# Altium schematic symbol library HW_ADHERENT_SYSCTRL_R1_L2.SCHLIB: 1987 symbols (part 36 of 38)
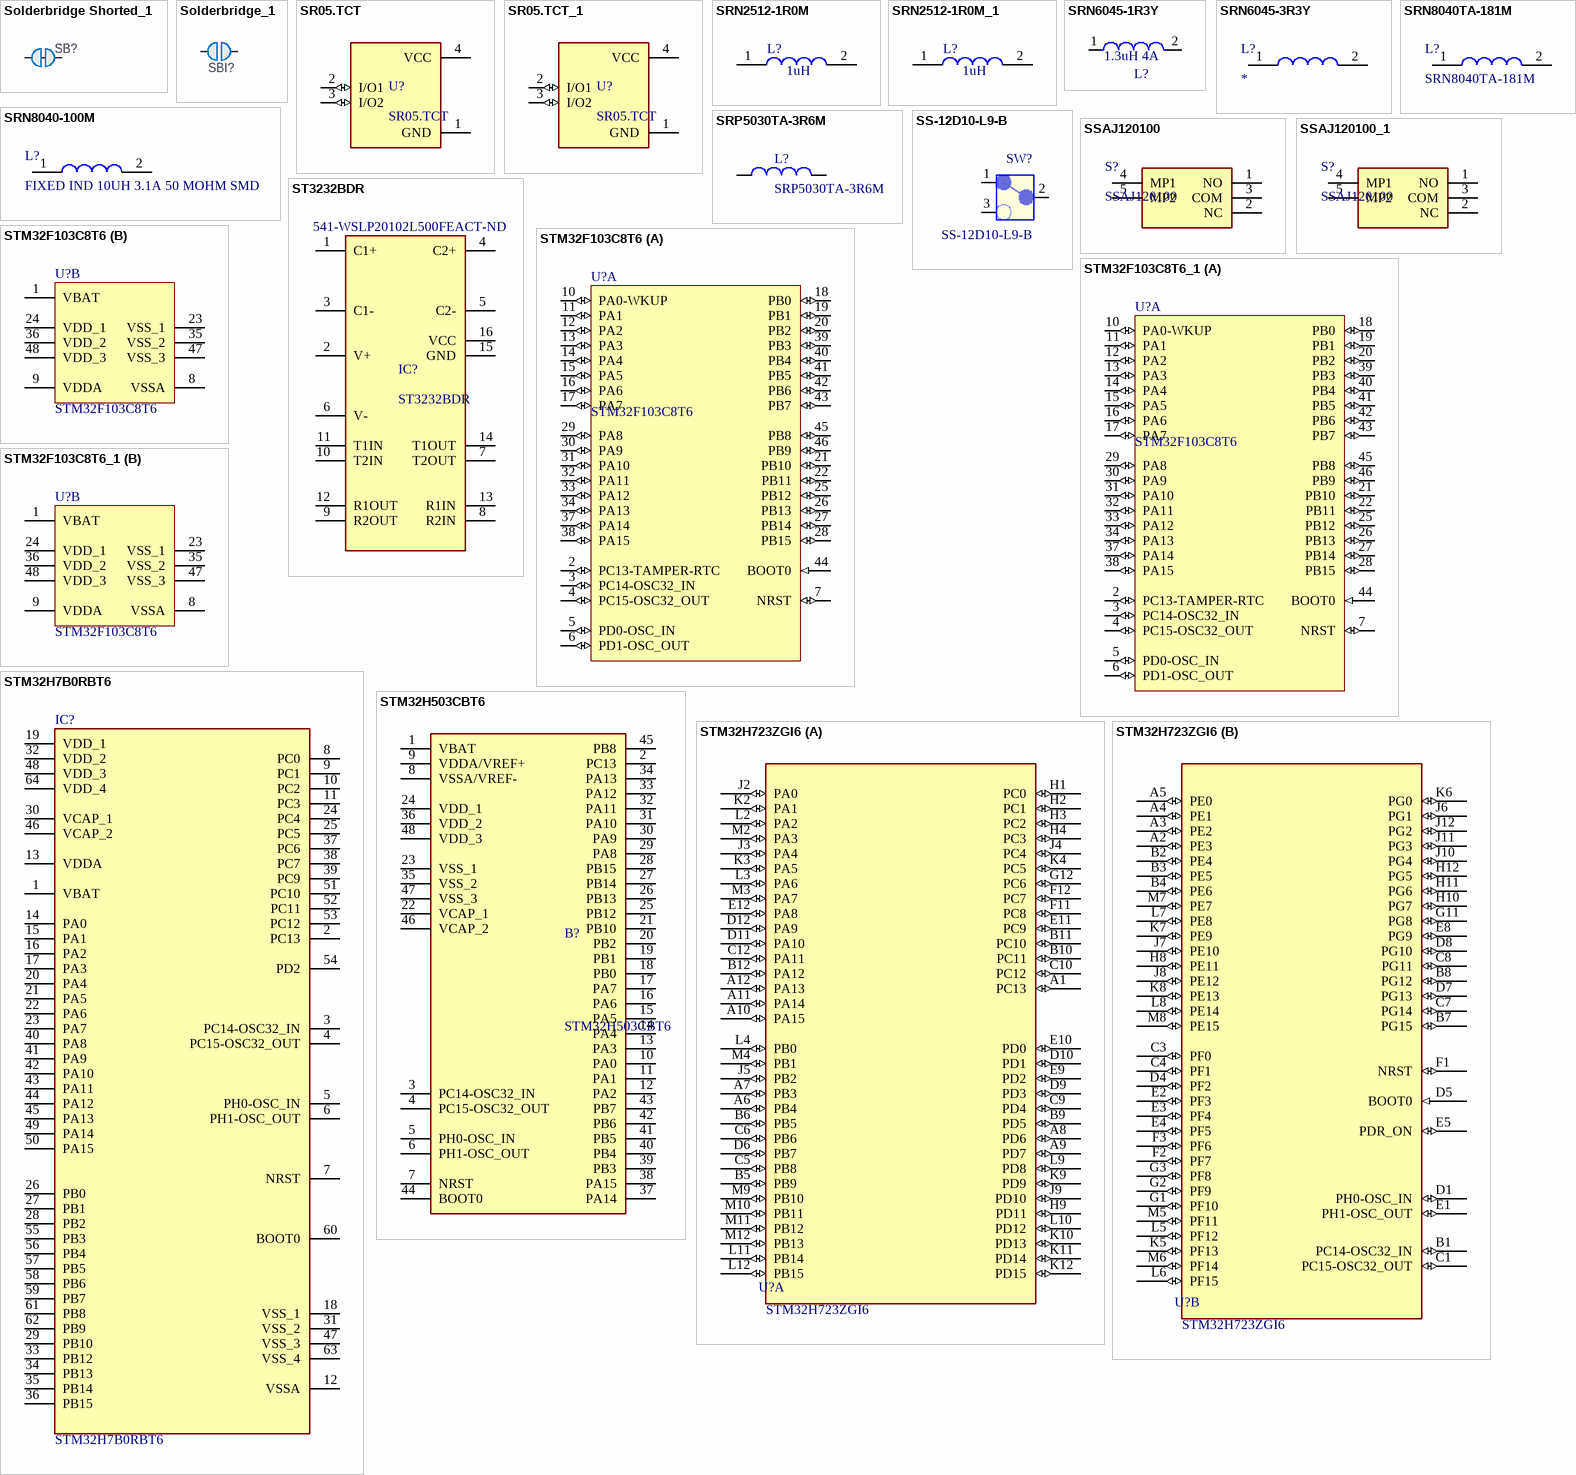
[diagram p97: symbols Solderbridge Shorted_1 to STM32H723ZGI6]

## STM32H7B0RBT6
designator IC?
Integrated Circuit; Manufacturer_Name: STMicroelectronics; Datasheet Link: https://www.mouser.com/datasheet/2/389/dm00674684-1799600.pdf; Height: 1.6mm; Manufacturer_Part_Number: STM32H7B0RBT6; Mouser Part Number: 511-STM32H7B0RBT6; Mouser Price/Stock: https://www.mouser.co.uk/ProductDetail/STMicroelectronics/STM32H7B0RBT6?qs=xZ%2FP%252Ba9zWqZ2tzX90GObZw%3D%3D; Arrow Part Number: STM32H7B0RBT6; Arrow Price/Stock: https://www.arrow.com/en/products/stm32h7b0rbt6/stmicroelectronics?region=nac
footprint QFP50P1200X1200X160-64N
pins: 1 VBAT, 2 PC13, 3 PC14-OSC32_IN, 4 PC15-OSC32_OUT, 5 PH0-OSC_IN, 6 PH1-OSC_OUT, 7 NRST, 8 PC0, 9 PC1, 10 PC2, 11 PC3, 12 VSSA, 13 VDDA, 14 PA0, 15 PA1, 16 PA2, 17 PA3, 18 VSS_1, 19 VDD_1, 20 PA4, 21 PA5, 22 PA6, 23 PA7, 24 PC4, 25 PC5, 26 PB0, 27 PB1, 28 PB2, 29 PB10, 30 VCAP_1, 31 VSS_2, 32 VDD_2, 33 PB12, 34 PB13, 35 PB14, 36 PB15, 37 PC6, 38 PC7, 39 PC9, 40 PA8, 41 PA9, 42 PA10, 43 PA11, 44 PA12, 45 PA13, 46 VCAP_2, 47 VSS_3, 48 VDD_3, 49 PA14, 50 PA15, 51 PC10, 52 PC11, 53 PC12, 54 PD2, 55 PB3, 56 PB4, 57 PB5, 58 PB6, 59 PB7, 60 BOOT0, 61 PB8, 62 PB9, 63 VSS_4, 64 VDD_4

## STM32H503CBT6
designator B?
ARM Microcontrollers - MCU Arm Cortex-M33 32-bit 250MHz, 128 Kbytes of Flash, 32 Kbytes of RAM, I3C; Manufacturer_Name: STMicroelectronics; Geometry.Height: 1.6mm; Manufacturer_Part_Number: STM32H503CBT6; Mouser Part Number: 511-STM32H503CBT6; Mouser Price/Stock: https://www.mouser.co.uk/ProductDetail/STMicroelectronics/STM32H503CBT6?qs=amGC7iS6iy99sz%2FXgeIPHg%3D%3D; Arrow Part Number: STM32H503CBT6; Arrow Price/Stock: https://www.arrow.com/en/products/stm32h503cbt6/stmicroelectronics?utm_currency=USD&region=nac; Datasheet Link: https://www.st.com/resource/en/datasheet/stm32h503eb.pdf; LCSC: C17700273
footprint QFP50P900X900X160-48N
pins: 1 VBAT, 2 PC13, 3 PC14-OSC32_IN, 4 PC15-OSC32_OUT, 5 PH0-OSC_IN, 6 PH1-OSC_OUT, 7 NRST, 8 VSSA/VREF-, 9 VDDA/VREF+, 10 PA0, 11 PA1, 12 PA2, 13 PA3, 14 PA4, 15 PA5, 16 PA6, 17 PA7, 18 PB0, 19 PB1, 20 PB2, 21 PB10, 22 VCAP_1, 23 VSS_1, 24 VDD_1, 25 PB12, 26 PB13, 27 PB14, 28 PB15, 29 PA8, 30 PA9, 31 PA10, 32 PA11, 33 PA12, 34 PA13, 35 VSS_2, 36 VDD_2, 37 PA14, 38 PA15, 39 PB3, 40 PB4, 41 PB5, 42 PB6, 43 PB7, 44 BOOT0, 45 PB8, 46 VCAP_2, 47 VSS_3, 48 VDD_3

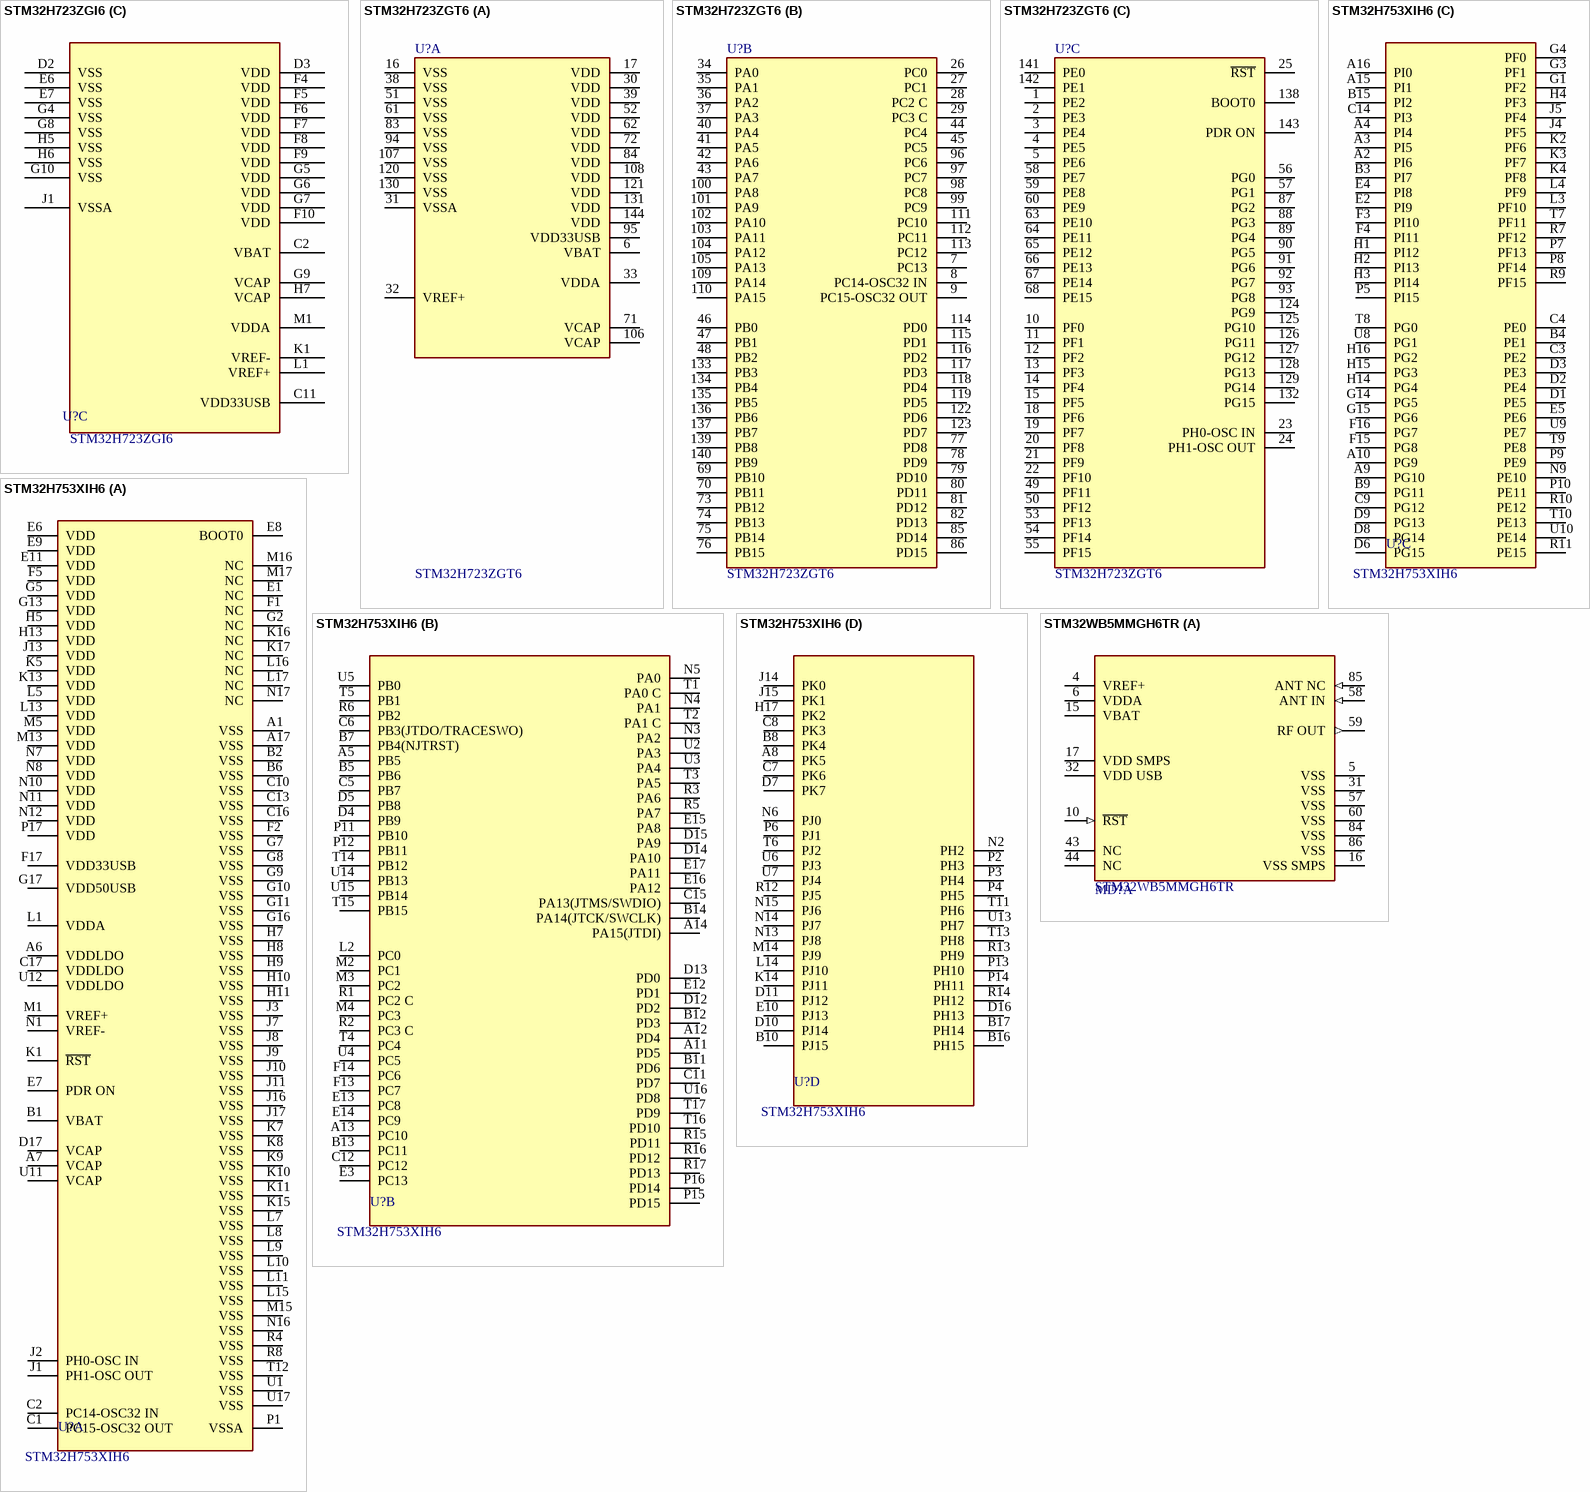
[diagram p55: symbols STM32H723ZGI6 to STM32WB5MMGH6TR]

## STM32H723ZGI6
designator U?, comment Manufacturer Part Number: STM32H723ZGI6  (hidden comment: IC MCU 32BIT 1MB FLASH 144UFBGA)
ARM® Cortex®-M7 STM32H7 Microcontroller IC 32-Bit Single-Core 550MHz 1MB (1M x 8) FLASH 144-UFBGA (7x7); Order Code: DIGI: 497-STM32H723ZGI6-ND
footprint UFBGA_144_7x7
part A pins: A1 PC13 (io), A6 PB4 (io), A7 PB3 (io), A8 PD6 (io), A9 PD7 (io), A10 PA15 (io), A11 PA14 (io), A12 PA13 (io), B5 PB9 (io), B6 PB5 (io), B9 PD5 (io), B10 PC11 (io), B11 PC10 (io), B12 PA12 (io), C5 PB8 (io), C6 PB6 (io), C9 PD4 (io), C10 PC12 (io), C12 PA11 (io), D6 PB7 (io), D9 PD3 (io), D10 PD1 (io), D11 PA10 (io), D12 PA9 (io), E9 PD2 (io), E10 PD0 (io), E11 PC9 (io), E12 PA8 (io), F11 PC8 (io), F12 PC7 (io), G12 PC6 (io), H1 PC0 (io), H2 PC1 (io), H3 PC2 (io), H4 PC3 (io), H9 PD11 (io), J2 PA0 (io), J3 PA4 (io), J4 PC4 (io), J5 PB2 (io), J9 PD10 (io), K2 PA1 (io), K3 PA5 (io), K4 PC5 (io), K9 PD9 (io), K10 PD13 (io), K11 PD14 (io), K12 PD15 (io), L2 PA2 (io), L3 PA6 (io), L4 PB0 (io), L9 PD8 (io), L10 PD12 (io), L11 PB14 (io), L12 PB15 (io), M2 PA3 (io), M3 PA7 (io), M4 PB1 (io), M9 PB10 (io), M10 PB11 (io), M11 PB12 (io), M12 PB13 (io)
part B pins: A2 PE3 (io), A3 PE2 (io), A4 PE1 (io), A5 PE0 (io), B1 PC14-OSC32_IN (io), B2 PE4 (io), B3 PE5 (io), B4 PE6 (io), B7 PG15 (io), B8 PG12 (io), C1 PC15-OSC32_OUT (io), C3 PF0 (io), C4 PF1 (io), C7 PG14 (io), C8 PG11 (io), D1 PH0-OSC_IN (io), D4 PF2 (io), D5 BOOT0 (in), D7 PG13 (io), D8 PG10 (io), E1 PH1-OSC_OUT (io), E2 PF3 (io), E3 PF4 (io), E4 PF5 (io), E5 PDR_ON (io), E8 PG9 (io), F1 NRST (io), F2 PF7 (io), F3 PF6 (io), G1 PF10 (io), G2 PF9 (io), G3 PF8 (io), G11 PG8 (io), H8 PE11 (io), H10 PG7 (io), H11 PG6 (io), H12 PG5 (io), J6 PG1 (io), J7 PE10 (io), J8 PE12 (io), J10 PG4 (io), J11 PG3 (io), J12 PG2 (io), K5 PF13 (io), K6 PG0 (io), K7 PE9 (io), K8 PE13 (io), L5 PF12 (io), L6 PF15 (io), L7 PE8 (io), L8 PE14 (io), M5 PF11 (io), M6 PF14 (io), M7 PE7 (io), M8 PE15 (io)
part C pins: C2 VBAT (power), C11 VDD33USB (power), D2 VSS (power), D3 VDD (power), E6 VSS (power), E7 VSS (power), F4 VDD (power), F5 VDD (power), F6 VDD (power), F7 VDD (power), F8 VDD (power), F9 VDD (power), F10 VDD (power), G4 VSS (power), G5 VDD (power), G6 VDD (power), G7 VDD (power), G8 VSS (power), G9 VCAP (power), G10 VSS (power), H5 VSS (power), H6 VSS (power), H7 VCAP (power), J1 VSSA (power), K1 VREF- (power), L1 VREF+ (power), M1 VDDA (power)

## STM32H723ZGT6
designator U?
ARM® Cortex®-M7 STM32H7 Microcontroller IC 32-Bit Single-Core 550MHz 1MB (1M x 8) FLASH 144-LQFP (20x20); Manufacturer Name: STMicroelectronics; Manufacturer Part Number: STM32H723ZGT6
footprint STMicroelectronics_LQFP144-1A_IPC_C
part A pins: 6 VBAT (power), 16 VSS (power), 17 VDD (power), 30 VDD (power), 31 VSSA (power), 32 VREF+ (power), 33 VDDA (power), 38 VSS (power), 39 VDD (power), 51 VSS (power), 52 VDD (power), 61 VSS (power), 62 VDD (power), 71 VCAP (power), 72 VDD (power), 83 VSS (power), 84 VDD (power), 94 VSS (power), 95 VDD33USB (power), 106 VCAP (power), 107 VSS (power), 108 VDD (power), 120 VSS (power), 121 VDD (power), 130 VSS (power), 131 VDD (power), 144 VDD (power)
part B pins: 7 PC13, 8 PC14-OSC32 IN, 9 PC15-OSC32 OUT, 26 PC0, 27 PC1, 28 PC2 C, 29 PC3 C, 34 PA0, 35 PA1, 36 PA2, 37 PA3, 40 PA4, 41 PA5, 42 PA6, 43 PA7, 44 PC4, 45 PC5, 46 PB0, 47 PB1, 48 PB2, 69 PB10, 70 PB11, 73 PB12, 74 PB13, 75 PB14, 76 PB15, 77 PD8, 78 PD9, 79 PD10, 80 PD11, 81 PD12, 82 PD13, 85 PD14, 86 PD15, 96 PC6, 97 PC7, 98 PC8, 99 PC9, 100 PA8, 101 PA9, 102 PA10, 103 PA11, 104 PA12, 105 PA13, 109 PA14, 110 PA15, 111 PC10, 112 PC11, 113 PC12, 114 PD0, 115 PD1, 116 PD2, 117 PD3, 118 PD4, 119 PD5, 122 PD6, 123 PD7, 133 PB3, 134 PB4, 135 PB5, 136 PB6, 137 PB7, 139 PB8, 140 PB9
part C pins: 1 PE2, 2 PE3, 3 PE4, 4 PE5, 5 PE6, 10 PF0, 11 PF1, 12 PF2, 13 PF3, 14 PF4, 15 PF5, 18 PF6, 19 PF7, 20 PF8, 21 PF9, 22 PF10, 23 PH0-OSC IN, 24 PH1-OSC OUT, 25 ~{RST}, 49 PF11, 50 PF12, 53 PF13, 54 PF14, 55 PF15, 56 PG0, 57 PG1, 58 PE7, 59 PE8, 60 PE9, 63 PE10, 64 PE11, 65 PE12, 66 PE13, 67 PE14, 68 PE15, 87 PG2, 88 PG3, 89 PG4, 90 PG5, 91 PG6, 92 PG7, 93 PG8, 124 PG9, 125 PG10, 126 PG11, 127 PG12, 128 PG13, 129 PG14, 132 PG15, 138 BOOT0, 141 PE0, 142 PE1, 143 PDR ON

## STM32H753XIH6
designator U?, comment Manufacturer Part Number: STM32H753XIH6  (hidden comment: IC MCU 32BIT 2MB FLASH TFBGA)
ARM® Cortex®-M7 STM32H7 Microcontroller IC 32-Bit Single-Core 480MHz 2MB (2M x 8) FLASH 240+25-TFBGA (14x14); Order Code: DIGI: 497-18567-ND
footprint STMicroelectronics_TFBGA240+25-A07U_IPC_A
footprint STMicroelectronics_TFBGA240+25-A07U_IPC_B
footprint STMicroelectronics_TFBGA240+25-A07U_IPC_C
footprint STMicroelectronics_TFBGA240+25-A07U_MFG
part A pins: A1 VSS, A6 VDDLDO, A7 VCAP, A17 VSS, B1 VBAT, B2 VSS, B6 VSS, C1 PC15-OSC32 OUT, C2 PC14-OSC32 IN, C10 VSS, C13 VSS, C16 VSS, C17 VDDLDO, D17 VCAP, E1 NC, E6 VDD, E7 PDR ON, E8 BOOT0, E9 VDD, E11 VDD, F1 NC, F2 VSS, F5 VDD, F17 VDD33USB, G2 NC, G5 VDD, G7 VSS, G8 VSS, G9 VSS, G10 VSS, G11 VSS, G13 VDD, G16 VSS, G17 VDD50USB, H5 VDD, H7 VSS, H8 VSS, H9 VSS, H10 VSS, H11 VSS, H13 VDD, J1 PH1-OSC OUT, J2 PH0-OSC IN, J3 VSS, J7 VSS, J8 VSS, J9 VSS, J10 VSS, J11 VSS, J13 VDD, J16 VSS, J17 VSS, K1 ~{RST}, K5 VDD, K7 VSS, K8 VSS, K9 VSS, K10 VSS, K11 VSS, K13 VDD, K15 VSS, K16 NC, K17 NC, L1 VDDA, L5 VDD, L7 VSS, L8 VSS, L9 VSS, L10 VSS, L11 VSS, L13 VDD, L15 VSS, L16 NC, L17 NC, M1 VREF+, M5 VDD, M13 VDD, M15 VSS, M16 NC, M17 NC, N1 VREF-, N7 VDD, N8 VDD, N10 VDD, N11 VDD, N12 VDD, N16 VSS, N17 NC, P1 VSSA, P17 VDD, R4 VSS, R8 VSS, T12 VSS, U1 VSS, U11 VCAP, U12 VDDLDO, U17 VSS
part B pins: A5 PB5, A11 PD5, A12 PD4, A13 PC10, A14 PA15(JTDI), B5 PB6, B7 PB4(NJTRST), B11 PD6, B12 PD3, B13 PC11, B14 PA14(JTCK/SWCLK), C5 PB7, C6 PB3(JTDO/TRACESWO), C11 PD7, C12 PC12, C15 PA13(JTMS/SWDIO), D4 PB9, D5 PB8, D12 PD2, D13 PD0, D14 PA10, D15 PA9, E3 PC13, E12 PD1, E13 PC8, E14 PC9, E15 PA8, E16 PA12, E17 PA11, F13 PC7, F14 PC6, L2 PC0, M2 PC1, M3 PC2, M4 PC3, N3 PA2, N4 PA1, N5 PA0, P11 PB10, P12 PB11, P15 PD15, P16 PD14, R1 PC2 C, R2 PC3 C, R3 PA6, R5 PA7, R6 PB2, R15 PD11, R16 PD12, R17 PD13, T1 PA0 C, T2 PA1 C, T3 PA5, T4 PC4, T5 PB1, T14 PB12, T15 PB15, T16 PD10, T17 PD9, U2 PA3, U3 PA4, U4 PC5, U5 PB0, U14 PB13, U15 PB14, U16 PD8
part C pins: A2 PI6, A3 PI5, A4 PI4, A9 PG10, A10 PG9, A15 PI1, A16 PI0, B3 PI7, B4 PE1, B9 PG11, B15 PI2, C3 PE2, C4 PE0, C9 PG12, C14 PI3, D1 PE5, D2 PE4, D3 PE3, D6 PG15, D8 PG14, D9 PG13, E2 PI9, E4 PI8, E5 PE6, F3 PI10, F4 PI11, F15 PG8, F16 PG7, G1 PF2, G3 PF1, G4 PF0, G14 PG5, G15 PG6, H1 PI12, H2 PI13, H3 PI14, H4 PF3, H14 PG4, H15 PG3, H16 PG2, J4 PF5, J5 PF4, K2 PF6, K3 PF7, K4 PF8, L3 PF10, L4 PF9, N9 PE10, P5 PI15, P7 PF13, P8 PF14, P9 PE9, P10 PE11, R7 PF12, R9 PF15, R10 PE12, R11 PE15, T7 PF11, T8 PG0, T9 PE8, T10 PE13, U8 PG1, U9 PE7, U10 PE14
part D pins: A8 PK5, B8 PK4, B10 PJ15, B16 PH15, B17 PH14, C7 PK6, C8 PK3, D7 PK7, D10 PJ14, D11 PJ12, D16 PH13, E10 PJ13, H17 PK2, J14 PK0, J15 PK1, K14 PJ11, L14 PJ10, M14 PJ9, N2 PH2, N6 PJ0, N13 PJ8, N14 PJ7, N15 PJ6, P2 PH3, P3 PH4, P4 PH5, P6 PJ1, P13 PH10, P14 PH11, R12 PJ5, R13 PH9, R14 PH12, T6 PJ2, T11 PH6, T13 PH8, U6 PJ3, U7 PJ4, U13 PH7

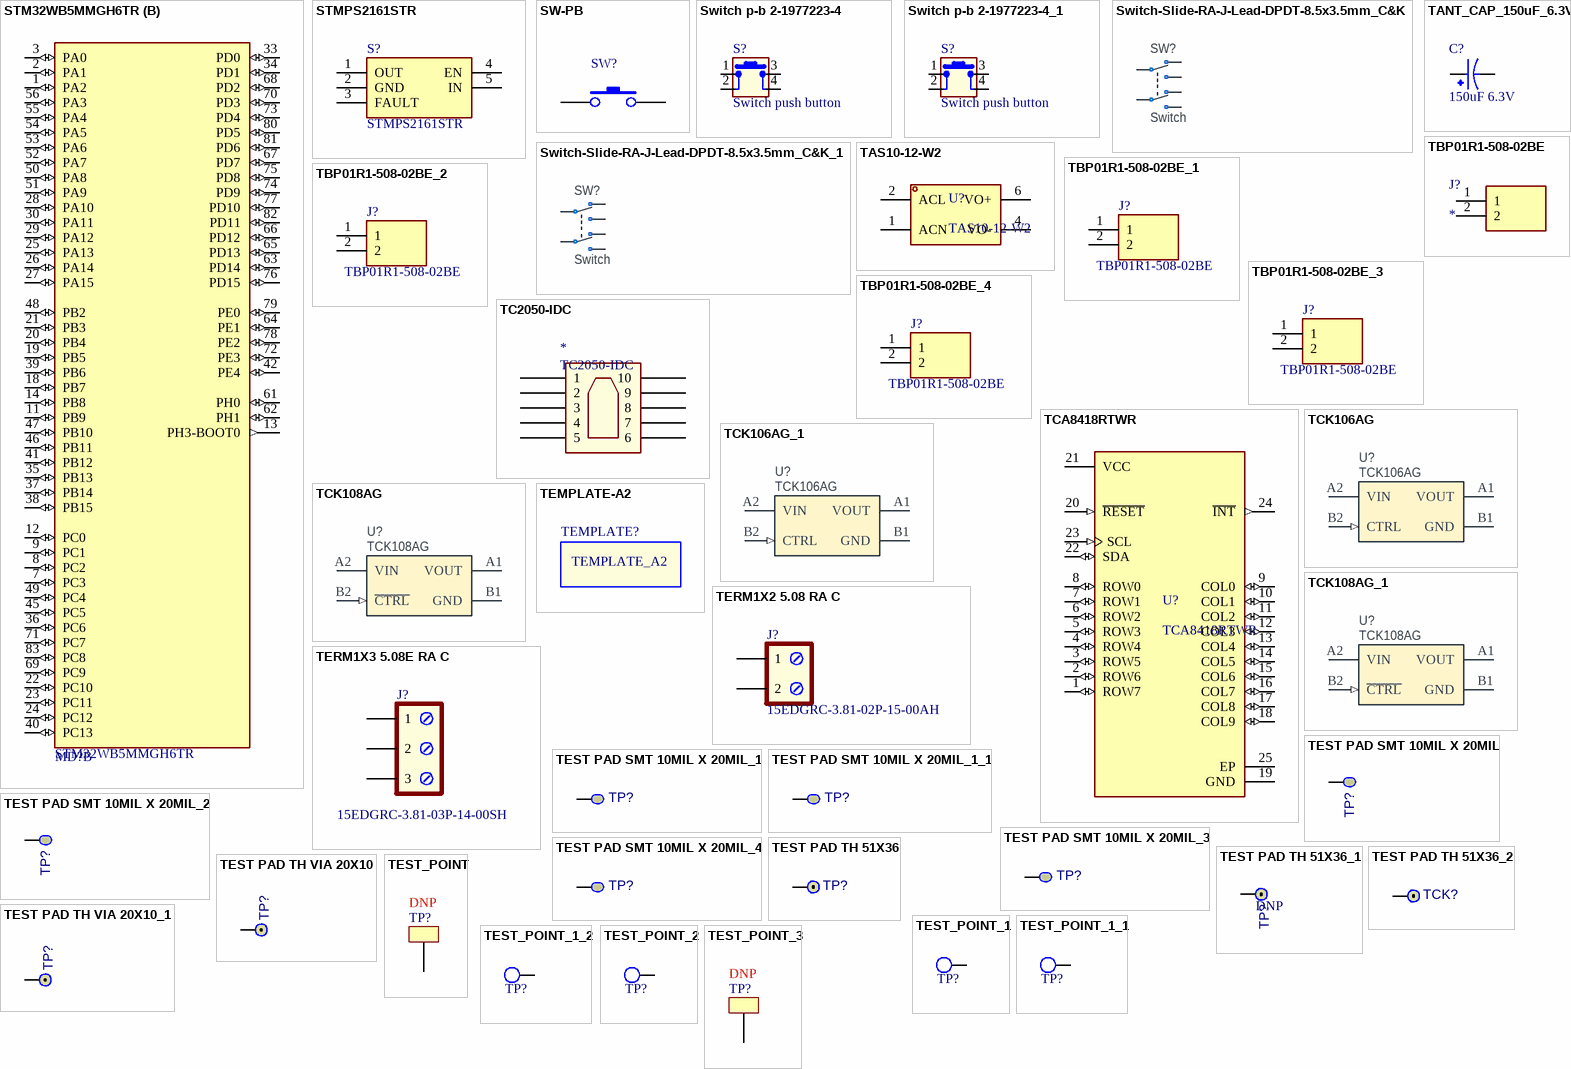
[diagram p56: symbols STM32WB5MMGH6TR to TEST_POINT_3]

## STM32WB5MMGH6TR
designator MD?, comment Manufacturer Part Number: STM32WB5MMGH6TR  (hidden comment: RF TXRX MODULE BT CHIP SMD)
802.15.4, Bluetooth Bluetooth v5.0, Thread, Zigbee® Transceiver Module 2.4GHz Integrated, Chip Surface Mount; Order Code: DIGI: 497-STM32WB5MMGH6TR-ND
footprint STMicroelectronics_STM32WB5MMGH6TR
part A pins: 4 VREF+ (power), 5 VSS (power), 6 VDDA (power), 10 ~{RST} (in), 15 VBAT (power), 16 VSS SMPS (power), 17 VDD SMPS (power), 31 VSS (power), 32 VDD USB (power), 43 NC, 44 NC, 57 VSS (power), 58 ANT IN (in), 59 RF OUT (out), 60 VSS (power), 84 VSS (power), 85 ANT NC (in), 86 VSS (power)
part B pins: 1 PA2 (io), 2 PA1 (io), 3 PA0 (io), 7 PC3 (io), 8 PC2 (io), 9 PC1 (io), 11 PB9 (io), 12 PC0 (io), 13 PH3-BOOT0 (out), 14 PB8 (io), 18 PB7 (io), 19 PB5 (io), 20 PB4 (io), 21 PB3 (io), 22 PC10 (io), 23 PC11 (io), 24 PC12 (io), 25 PA13 (io), 26 PA14 (io), 27 PA15 (io), 28 PA10 (io), 29 PA12 (io), 30 PA11 (io), 33 PD0 (io), 34 PD1 (io), 35 PB13 (io), 36 PC6 (io), 37 PB14 (io), 38 PB15 (io), 39 PB6 (io), 40 PC13 (io), 41 PB12 (io), 42 PE4 (io), 45 PC5 (io), 46 PB11 (io), 47 PB10 (io), 48 PB2 (io), 49 PC4 (io), 50 PA8 (io), 51 PA9 (io), 52 PA7 (io), 53 PA6 (io), 54 PA5 (io), 55 PA4 (io), 56 PA3 (io), 61 PH0 (io), 62 PH1 (io), 63 PD14 (io), 64 PE1 (io), 65 PD13 (io), 66 PD12 (io), 67 PD7 (io), 68 PD2 (io), 69 PC9 (io), 70 PD3 (io), 71 PC7 (io), 72 PE3 (io), 73 PD4 (io), 74 PD9 (io), 75 PD8 (io), 76 PD15 (io), 77 PD10 (io), 78 PE2 (io), 79 PE0 (io), 80 PD5 (io), 81 PD6 (io), 82 PD11 (io), 83 PC8 (io)

## STMPS2161STR
designator S?
Switch; Manufacturer_Name: STMicroelectronics; Datasheet Link: https://componentsearchengine.com/Datasheets/2/STMPS2161STR.pdf; Height: 1.45mm; Manufacturer_Part_Number: STMPS2161STR
footprint SOT95P280X145-5N
pins: 1 OUT, 2 GND, 3 FAULT, 4 EN, 5 IN

## SW-PB
designator SW?
footprint CKN9084
pins: 1, 2

## Switch p-b 2-1977223-4
designator S?, comment value Switch push button  (hidden comment: 2-1977223-4)
SPST-NO; Manufacturer: TE Connectivity ALCOSWITCH Switches; Manufacturer Part Number: 2-1977223-4; Supplier Part Number: 450-2135-1-ND
footprint SMD 6.0X6.0X9.5MM
pins: 1, 2, 3, 4

## Switch p-b 2-1977223-4_1
designator S?, comment value Switch push button  (hidden comment: 2-1977223-4)
SPST-NO; Manufacturer: TE Connectivity ALCOSWITCH Switches; Manufacturer Part Number: 2-1977223-4; Supplier Part Number: 450-2135-1-ND
footprint SMD 6.0X6.0X9.5MM
pins: 1, 2, 3, 4

## Switch-Slide-RA-J-Lead-DPDT-8.5x3.5mm_C&K
designator SW?, comment Switch
SMD slide Switch (ON-ON); Part Number: Switch-Slide-RA-J-Lead-DPDT-8.5x3.5mm_C&K; Manufacturer: C&K; Manufacturer Part Number: JS202011JAQN; Part number IPS: 00000007811; Part number NEMS: 101500037; Note: N.A.; Pad Count: 6; Component Status: Active; Footprint Doc: Switch-Slide-RA-J-Lead-DPDT-8.5x3.5mm; LatestRevisionDate: 2017-02-01; Published: 2016-09-15; Value: Switch; Artikkelnr Noca: N.A.; ComponentLink1URL: N.A.; ComponentLink1Description: Datasheet; ComponentLink2URL: N.A.; ComponentLink2Description: Supplier link; HelpURL: http://www.ck-components.com/media/1422/js.pdf; Supplier 1: Digi-Key; Supplier Part Number 1: CKN10722CT-ND; Supplier 2: Mouser; Supplier Part Number 2: 611-JS202011JAQN; Author: rsk; Component Class: Switches; PartId: 101500037; Part number Norautron: N.A.
footprint JS102011JAQN
pins: 1 N.O-1, 2 COM-1, 3 N.C-1, 4 N.O-2, 5 COM-2, 6 N.C-2

## Switch-Slide-RA-J-Lead-DPDT-8.5x3.5mm_C&K_1
designator SW?, comment Switch
SMD slide Switch (ON-ON); Part Number: Switch-Slide-RA-J-Lead-DPDT-8.5x3.5mm_C&K; Manufacturer: C&K; Manufacturer Part Number: JS202011JAQN; Part number IPS: 00000007811; Part number NEMS: 101500037; Note: N.A.; Pad Count: 6; Component Status: Active; Footprint Doc: Switch-Slide-RA-J-Lead-DPDT-8.5x3.5mm; LatestRevisionDate: 2017-02-01; Published: 2016-09-15; Value: Switch; Artikkelnr Noca: N.A.; ComponentLink1URL: N.A.; ComponentLink1Description: Datasheet; ComponentLink2URL: N.A.; ComponentLink2Description: Supplier link; HelpURL: http://www.ck-components.com/media/1422/js.pdf; Supplier 1: Digi-Key; Supplier Part Number 1: CKN10722CT-ND; Supplier 2: Mouser; Supplier Part Number 2: 611-JS202011JAQN; Author: rsk; Component Class: Switches; PartId: 101500037; Part number Norautron: N.A.
footprint JS102011JAQN
pins: 1 N.O-1, 2 COM-1, 3 N.C-1, 4 N.O-2, 5 COM-2, 6 N.C-2

## TANT_CAP_150uF_6.3V
designator C?, comment value 150uF 6.3V  (hidden comment: CAP TANT POLY 150UF 6.3V 1411)
150 µF Molded Tantalum Polymer Capacitor 6.3 V 1411 (3528 Metric) 70mOhm @ 100kHz; Manufacturer Part Number: 6TPG150M; Availability: Unavailable; Price: None; Package: None
footprint CAP_6TPG150M
pins: 1, 2

## TAS10-12-W2
designator U?
12V 830mA 85VAC~265VAC 100V~370V 10W Step-down type AC/DC-DC 85% Plugin,25x39mm AC-DC Power Modules ROHS; MF: TDPOWER; MP: TAS10-12-W2; Manufacturer Part Number: TAS10-12-W2; LCSC: C2687656; ComponentLink1Description: New link; ComponentLink1URL: https://www.lcsc.com/product-detail/Power-Modules_TDPOWER-TAS10-12-W2_C2687656.html
footprint TAS10-12-W2
pins: 1 ACN, 2 ACL, 4 VO-, 6 VO+

## TBP01R1-508-02BE
designator J?
Connector; Manufacturer_Name: CUI Devices; Manufacturer_Part_Number: TBP01R1-508-02BE; Datasheet Link: https://componentsearchengine.com/Datasheets/1/TBP01R1-508-02BE.pdf; Height: 8.5mm; Mouser Part Number: 490-TBP01R1-508-02BE; Mouser Price/Stock: https://www.mouser.co.uk/ProductDetail/CUI-Devices/TBP01R1-508-02BE?qs=PzGy0jfpSMuT8jxfc02aCw%3D%3D; Arrow Part Number: TBP01R1-508-02BE; Arrow Price/Stock: https://www.arrow.com/en/products/tbp01r1-508-02be/cui-devices?region=nac
footprint TBP01R150802BE
pins: 1, 2

## TBP01R1-508-02BE_1
designator J?, comment TBP01R1-508-02BE
Connector; Manufacturer_Name: CUI Devices; Datasheet Link: https://componentsearchengine.com/Datasheets/1/TBP01R1-508-02BE.pdf; Height: 8.5mm; Manufacturer_Part_Number: TBP01R1-508-02BE; Mouser Part Number: 490-TBP01R1-508-02BE; Mouser Price/Stock: https://www.mouser.co.uk/ProductDetail/CUI-Devices/TBP01R1-508-02BE?qs=PzGy0jfpSMuT8jxfc02aCw%3D%3D; Arrow Part Number: TBP01R1-508-02BE; Arrow Price/Stock: https://www.arrow.com/en/products/tbp01r1-508-02be/cui-devices?region=nac
footprint TBP01R150802BE
pins: 1, 2

## TBP01R1-508-02BE_2
designator J?, comment TBP01R1-508-02BE
Connector; Manufacturer_Name: CUI Devices; Datasheet Link: https://componentsearchengine.com/Datasheets/1/TBP01R1-508-02BE.pdf; Height: 8.5mm; Manufacturer_Part_Number: TBP01R1-508-02BE; Mouser Part Number: 490-TBP01R1-508-02BE; Mouser Price/Stock: https://www.mouser.co.uk/ProductDetail/CUI-Devices/TBP01R1-508-02BE?qs=PzGy0jfpSMuT8jxfc02aCw%3D%3D; Arrow Part Number: TBP01R1-508-02BE; Arrow Price/Stock: https://www.arrow.com/en/products/tbp01r1-508-02be/cui-devices?region=nac
footprint TBP01R150802BE
pins: 1, 2

## TBP01R1-508-02BE_3
designator J?, comment TBP01R1-508-02BE
Connector; Manufacturer_Name: CUI Devices; Datasheet Link: https://componentsearchengine.com/Datasheets/1/TBP01R1-508-02BE.pdf; Height: 8.5mm; Manufacturer_Part_Number: TBP01R1-508-02BE; Mouser Part Number: 490-TBP01R1-508-02BE; Mouser Price/Stock: https://www.mouser.co.uk/ProductDetail/CUI-Devices/TBP01R1-508-02BE?qs=PzGy0jfpSMuT8jxfc02aCw%3D%3D; Arrow Part Number: TBP01R1-508-02BE; Arrow Price/Stock: https://www.arrow.com/en/products/tbp01r1-508-02be/cui-devices?region=nac
footprint TBP01R150802BE
pins: 1, 2

## TBP01R1-508-02BE_4
designator J?, comment TBP01R1-508-02BE
Connector; Manufacturer_Name: CUI Devices; Datasheet Link: https://componentsearchengine.com/Datasheets/1/TBP01R1-508-02BE.pdf; Height: 8.5mm; Manufacturer_Part_Number: TBP01R1-508-02BE; Mouser Part Number: 490-TBP01R1-508-02BE; Mouser Price/Stock: https://www.mouser.co.uk/ProductDetail/CUI-Devices/TBP01R1-508-02BE?qs=PzGy0jfpSMuT8jxfc02aCw%3D%3D; Arrow Part Number: TBP01R1-508-02BE; Arrow Price/Stock: https://www.arrow.com/en/products/tbp01r1-508-02be/cui-devices?region=nac
footprint TBP01R150802BE
pins: 1, 2

## TC2050-IDC
designator *
footprint TC2050-IDC (Footprint not found)
pins: 1, 2, 3, 4, 5, 6, 7, 8, 9, 10

## TCA8418RTWR
designator U?
I2C Controlled Keypad Scan IC With Integrated ESD Protection 24-WQFN -40 to 85; MF: Texas Instruments; Purchase-URL: https://pricing.snapeda.com/search/part/TCA8418RTWR/?ref=eda; Value: *; SnapEDA_Link: https://www.snapeda.com/parts/TCA8418RTWR/Texas%20Instruments/view-part/229165/?ref=snap; Package: WQFN-24 Texas Instruments; MP: TCA8418RTWR; Digi-Key_Part_Number: 296-25223-1-ND; Check_prices: https://www.snapeda.com/parts/TCA8418RTWR/Texas%20Instruments/view-part/229165/?ref=eda
footprint QFN50P400X400X80-25N
pins: 1 ROW7 (io), 2 ROW6 (io), 3 ROW5 (io), 4 ROW4 (io), 5 ROW3 (io), 6 ROW2 (io), 7 ROW1 (io), 8 ROW0 (io), 9 COL0 (io), 10 COL1 (io), 11 COL2 (io), 12 COL3 (io), 13 COL4 (io), 14 COL5 (io), 15 COL6 (io), 16 COL7 (io), 17 COL8 (io), 18 COL9 (io), 19 GND (power), 20 ~{RESET} (in), 21 VCC (power), 22 SDA (io), 23 SCL (in), 24 ~{INT} (out), 25 EP

## TCK106AG
designator U?
1.0 A Load Switch IC with Slew Rate Control Driver in Ultra Small Package; Manufacturer: Toshiba; Manufacturer Part Number: TCK106AG,LF; Part number IPS: 00000004390; Part number Norautron: 26500627; Part number NEMS: 101900575; Note: N.A.; Pad Count: 4; Component Status: Active; Part Number: TCK106AG; ComponentLink1URL: https://toshiba.semicon-storage.com/info/docget.jsp?did=30131&prodName=TCK106AG; ComponentLink1Description: Datasheet; ComponentLink2URL: N.A.; ComponentLink2Description: Supplier link; HelpURL: N.A.; Footprint Doc: WLCSP-4; LatestRevisionDate: 2019-03-01; Published: 2019-02-17; Value: TCK106AG; Supplier 1: Digi-Key; Supplier Part Number 1: TCK106AGLFTR-ND; Supplier 2: Mouser; Supplier Part Number 2: 757-TCK106AGLF; Artikkelnr Noca: N.A.; Component Class: Misc_ICs; PartId: 101900575; Author: rsk
footprint BGA4C40P2X2_76X76X62
pins: A1 VOUT (power), A2 VIN (power), B1 GND (power), B2 CTRL (in)

## TCK106AG_1
designator U?, comment TCK106AG
1.0 A Load Switch IC with Slew Rate Control Driver in Ultra Small Package; Manufacturer: Toshiba; Manufacturer Part Number: TCK106AG,LF; Part number IPS: 00000004390; Part number Norautron: 26500627; Part number NEMS: 101900575; Note: N.A.; Pad Count: 4; Component Status: Active; Part Number: TCK106AG; ComponentLink1URL: https://toshiba.semicon-storage.com/info/docget.jsp?did=30131&prodName=TCK106AG; ComponentLink1Description: Datasheet; ComponentLink2URL: N.A.; ComponentLink2Description: Supplier link; HelpURL: N.A.; Footprint Doc: WLCSP-4; LatestRevisionDate: 2019-03-01; Published: 2019-02-17; Value: TCK106AG; Supplier 1: Digi-Key; Supplier Part Number 1: TCK106AGLFTR-ND; Supplier 2: Mouser; Supplier Part Number 2: 757-TCK106AGLF; Artikkelnr Noca: N.A.; Component Class: Misc_ICs; PartId: 101900575; Author: rsk
footprint BGA4C40P2X2_76X76X62
pins: A1 VOUT (power), A2 VIN (power), B1 GND (power), B2 CTRL (in)

## TCK108AG
designator U?
1.0 A Load Switch IC with Slew Rate Control Driver in Ultra Small Package; Manufacturer: Toshiba; Manufacturer Part Number: TCK108AG,LF; Part number NEMS: 101900814; Pad Count: 4; Note: N.A.; Component Status: Active; Part Number: TCK108AG; Component Class: Misc_ICs; ComponentLink1URL: https://toshiba.semicon-storage.com/info/docget.jsp?did=30131&prodName=TCK106AG; ComponentLink1Description: Datasheet; ComponentLink2URL: N.A.; ComponentLink2Description: Supplier link; HelpURL: https://toshiba.semicon-storage.com/ap-en/semiconductor/product/power-management-ics/load-switch-ics/detail.TCK108AG.html; Footprint Doc: WLCSP-4; LatestRevisionDate: 2024-02-27; Published: 2024-02-27; Value: TCK108AG; Supplier 1: Digi-Key; Supplier Part Number 1: TCK108AGLFCT-ND; Supplier 2: Mouser; Supplier Part Number 2: 757-TCK108AGLF; Artikkelnr Noca: N.A.; Part number IPS: N.A.; Author: getr; Part number Norautron: N.A.; PartId: 101900814
footprint BGA4C40P2X2_76X76X62
pins: A1 VOUT (power), A2 VIN (power), B1 GND (power), B2 ~{CTRL} (in)

## TCK108AG_1
designator U?, comment TCK108AG
1.0 A Load Switch IC with Slew Rate Control Driver in Ultra Small Package; Manufacturer: Toshiba; Manufacturer Part Number: TCK108AG,LF; Part number NEMS: 101900814; Pad Count: 4; Note: N.A.; Component Status: Active; Part Number: TCK108AG; Component Class: Misc_ICs; ComponentLink1URL: https://toshiba.semicon-storage.com/info/docget.jsp?did=30131&prodName=TCK106AG; ComponentLink1Description: Datasheet; ComponentLink2URL: N.A.; ComponentLink2Description: Supplier link; HelpURL: https://toshiba.semicon-storage.com/ap-en/semiconductor/product/power-management-ics/load-switch-ics/detail.TCK108AG.html; Footprint Doc: WLCSP-4; LatestRevisionDate: 2024-02-27; Published: 2024-02-27; Value: TCK108AG; Supplier 1: Digi-Key; Supplier Part Number 1: TCK108AGLFCT-ND; Supplier 2: Mouser; Supplier Part Number 2: 757-TCK108AGLF; Artikkelnr Noca: N.A.; Part number IPS: N.A.; Author: getr; Part number Norautron: N.A.; PartId: 101900814
footprint BGA4C40P2X2_76X76X62
pins: A1 VOUT (power), A2 VIN (power), B1 GND (power), B2 ~{CTRL} (in)

## TEMPLATE-A2
designator TEMPLATE?, comment TEMPLATE_A2
Manufacturer: MYIR; PCB Footprint: TEMPLATE-A2; Myir P/N: 21122.00032XN; Reserve Value: TEMPLATE_A2; Manufacturer P/N: TEMPLATE_A2; Part Type: Other
footprint TEMPLATE-A2
pins: 1

## TERM1X2 5.08 RA C
designator J?, comment 15EDGRC-3.81-02P-15-00AH
TERM BLOCK MALE 1X2POS 5.08MM SHRD4 RA THR; Manufacturer: DEGSON; Manufacturer Part Name: 15EDGRC-3.81-02P-15-00AH; Supplier: OZDISAN; Supplier No: 15EDGRC-3.81-02P-15-00AH; Value: 15EDGRC-3.81-02P-15-00AH
footprint 15EDGRC-3.81-02P-15-00AH
pins: 1, 2

## TERM1X3 5.08E RA C
designator J?, comment 15EDGRC-3.81-03P-14-00SH
TERM BLOCK MALE 1X3POS 5.08MM SHRD4 RA THR; Manufacturer: DEGSON; Manufacturer Part Name: 15EDGRC-3.81-03P-14-00SH; Supplier: OZDISAN; Supplier No: 15EDGRC-3.81-03P-14-00SH; Value: 15EDGRC-3.81-03P-14-00SH
footprint 15EDGRC-3.81-03P-14-00SH
pins: 1, 2, 3

## TEST PAD SMT 10MIL X 20MIL
designator TP?, comment Testpoint  (value not drawn)  (no BOM)
DNP: DNP; Value: Testpoint
footprint SMD_Ø1.5mm
pins: 1 P1

## TEST PAD SMT 10MIL X 20MIL_1
designator TP?, comment Testpoint  (value not drawn)  (no BOM)
DNP: DNP; Value: Testpoint
footprint SMD_Ø1.5mm
pins: 1 P1

## TEST PAD SMT 10MIL X 20MIL_1_1
designator TP?, comment Testpoint  (value not drawn)  (no BOM)
DNP: DNP; Value: Testpoint
footprint SMD_Ø1.5mm
pins: 1 P1

## TEST PAD SMT 10MIL X 20MIL_2
designator TP?, comment Testpoint  (value not drawn)  (no BOM)
DNP: DNP; Value: Testpoint
footprint SMD_1P5mm (Footprint not found)
pins: 1 P1

## TEST PAD SMT 10MIL X 20MIL_3
designator TP?, comment Testpoint  (value not drawn)  (no BOM)
DNP: DNP; Value: Testpoint
footprint SMD_Ø1.5mm
pins: 1 P1

## TEST PAD SMT 10MIL X 20MIL_4
designator TP?, comment Testpoint  (value not drawn)  (no BOM)
DNP: DNP; Value: Testpoint
footprint SMD_Ø1.5mm
pins: 1 P1

## TEST PAD TH 51X36
designator TP?, comment Testpoint  (value not drawn)  (no BOM)
DNP: DNP; Value: Testpoint
footprint SMD_1P5mm
pins: 1 P1

## TEST PAD TH 51X36_1
designator TP?, comment Populated: DNP  (hidden comment: Jumper)  (no BOM)
Test Pad TH 51X36; Manufacturer Part Number: none; Description_: TEST Pad, PIN sized, 51pad, 36 FHS; Manufacturer: none; Category: Non BOM Item; Type: Male; Mounting Type: Through Hole; Supplier 1: none; Supplier Part Number 1: none
footprint TP_PAD51D36 (TEST POINT, PLATED THRU HOLE PAD51_DRILL36)
pins: 1 P1

## TEST PAD TH 51X36_2
designator TCK?, comment Testpoint  (value not drawn)  (no BOM)
DNP: DNP; Value: Testpoint
footprint SMD_1P5mm (Footprint not found)
pins: 1 P1

## TEST PAD TH VIA 20X10
designator TP?, comment Testpoint  (value not drawn)  (no BOM)
DNP: DNP; Value: Testpoint
footprint SMD_Ø1.5mm
pins: 1 P1

## TEST PAD TH VIA 20X10_1
designator TP?, comment Testpoint  (value not drawn)  (no BOM)
DNP: DNP; Value: Testpoint
footprint SMD_1P5mm (Footprint not found)
pins: 1 P1

## TEST_POINT
designator TP?, comment Testpoint  (value not drawn)
Value: Testpoint; DNP: DNP
footprint SMD_Ø1.5mm
pins: 1

## TEST_POINT_1
designator TP?, comment TEST_POINT  (value not drawn)  (no BOM)
footprint TEST_POINT_TH
pins: 1

## TEST_POINT_1_1
designator TP?, comment TEST_POINT  (value not drawn)  (no BOM)
footprint TEST_POINT_TH
pins: 1

## TEST_POINT_1_2
designator TP?, comment TEST_POINT  (value not drawn)  (no BOM)
footprint TEST_POINT
footprint TEST_POINT_TH
pins: 1

## TEST_POINT_2
designator TP?, comment TEST_POINT  (value not drawn)  (no BOM)
footprint TEST_POINT
footprint TEST_POINT_TH
pins: 1

## TEST_POINT_3
designator TP?, comment Testpoint  (value not drawn)
Value: Testpoint; DNP: DNP
footprint SMD_1P5mm (Footprint not found)
pins: 1 (power)

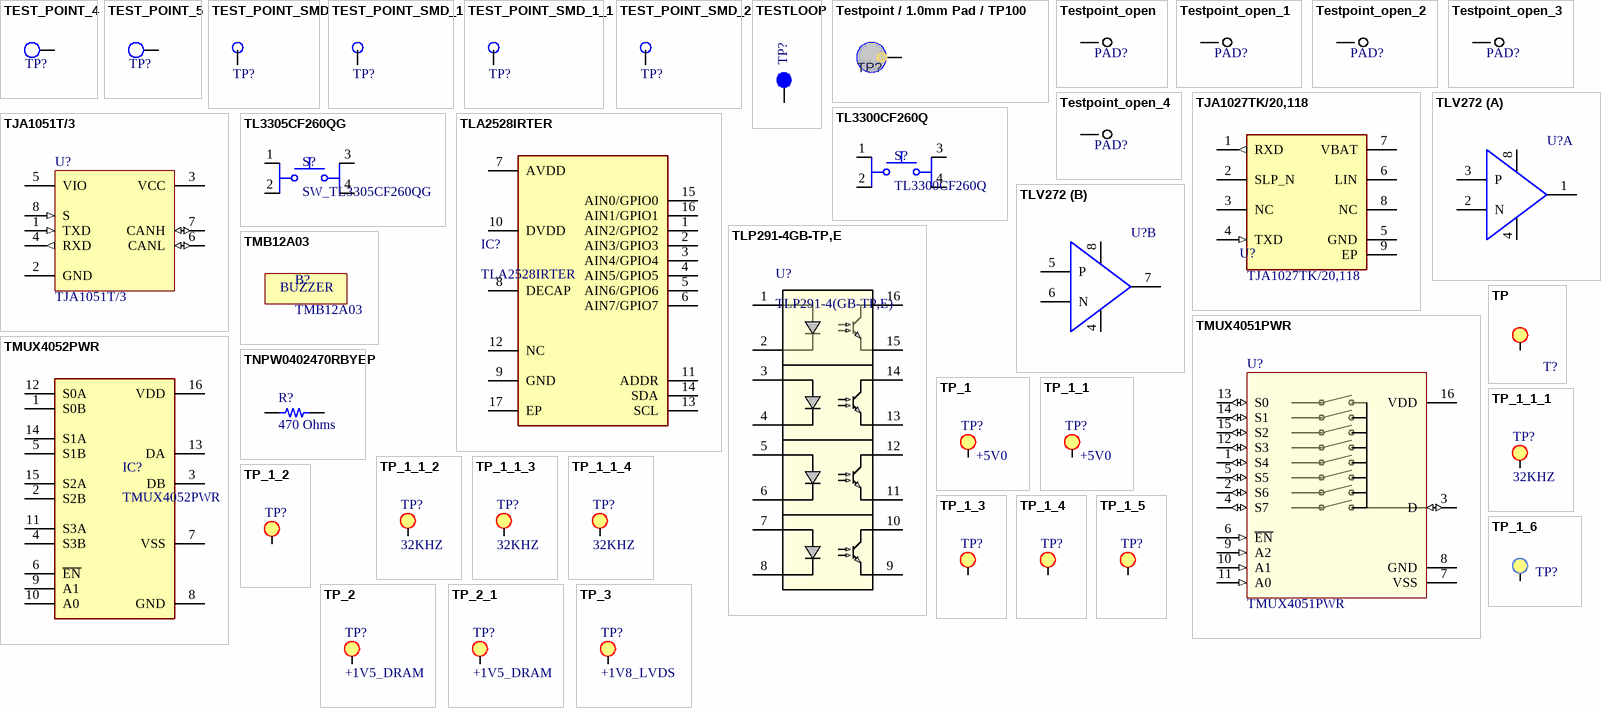
[diagram p57: symbols TEST_POINT_4 to TP_3]

## TEST_POINT_4
designator TP?, comment TEST_POINT  (value not drawn)  (no BOM)
footprint TEST_POINT
footprint TEST_POINT_TH
pins: 1

## TEST_POINT_5
designator TP?, comment TEST_POINT  (value not drawn)  (no BOM)
footprint TEST_POINT
footprint TEST_POINT_TH
pins: 1

## TEST_POINT_SMD
designator TP?, comment Test Point  (value not drawn)
footprint TEST_POINT_SMD
pins: 1

## TEST_POINT_SMD_1
designator TP?, comment Test Point  (value not drawn)
footprint TEST_POINT
pins: 1

## TEST_POINT_SMD_1_1
designator TP?, comment Test Point  (value not drawn)
footprint TEST_POINT
pins: 1

## TEST_POINT_SMD_2
designator TP?, comment Test Point  (value not drawn)
footprint TEST_POINT
pins: 1

## TESTLOOP
designator TP?, comment tpad_020  (value not drawn)
TEST POINT PAD 0.5MM DIA SMT, NO PART TO ORDER; CLASS: IO; CAD_APPROVED: Yes; AGILE_PN: 211-77484; HEIGHT: 0.1MM; ROHS: Yes; PCB Footprint: tpad_020
footprint tpad_020
pins: 1 Pin1

## Testpoint / 1.0mm Pad / TP100
designator TP?, comment Testpoint  (value not drawn)  (no BOM)
Testpoint / 2.0mm Pad / TP200; Value: Testpoint; DNP: DNP
footprint SMD_1P5mm (Footprint not found)
pins: 1 TP "test point"

## Testpoint_open
designator PAD?, comment Testpoint  (value not drawn)
Rule: UNIONINDEX{}0[]RULEKIND{}FabricationTestpoint[]NETSCOPE{}AnyNet[]LAYERKIND{}SameLayer[]NAME{}Schematic Fabrication Testpoint Style[]SIDE{}2[]TESTPOINTUNDERCOMPONENT{}TRUE[]MINSIZE{}40mil[]MAXSIZE{}100mil[]PREFEREDSIZE{}60mil[]MINHOLESIZE{}31.4961mil[]MAXHOLESIZE{}39.3701mil[]PREFEREDHOLESIZE{}35.4331mil[]TESTPOINTGRID{}1mil[]ALLOWSIDEBOTTOM{}TRUE[]USEGRID{}TRUE[]GRIDTOLERANCE{}0.01mil[]UNIT{}Metric[]PcbType{}ProtelPcb; Value: Testpoint; DNP: DNP
footprint TP_TH_3MM
pins: 1

## Testpoint_open_1
designator PAD?, comment Testpoint  (value not drawn)
Rule: UNIONINDEX{}0[]RULEKIND{}FabricationTestpoint[]NETSCOPE{}AnyNet[]LAYERKIND{}SameLayer[]NAME{}Schematic Fabrication Testpoint Style[]SIDE{}2[]TESTPOINTUNDERCOMPONENT{}TRUE[]MINSIZE{}40mil[]MAXSIZE{}100mil[]PREFEREDSIZE{}60mil[]MINHOLESIZE{}31.4961mil[]MAXHOLESIZE{}39.3701mil[]PREFEREDHOLESIZE{}35.4331mil[]TESTPOINTGRID{}1mil[]ALLOWSIDEBOTTOM{}TRUE[]USEGRID{}TRUE[]GRIDTOLERANCE{}0.01mil[]UNIT{}Metric[]PcbType{}ProtelPcb; Value: Testpoint; DNP: DNP
footprint TP_TH_3MM
pins: 1

## Testpoint_open_2
designator PAD?, comment Testpoint  (value not drawn)
Rule: UNIONINDEX{}0[]RULEKIND{}FabricationTestpoint[]NETSCOPE{}AnyNet[]LAYERKIND{}SameLayer[]NAME{}Schematic Fabrication Testpoint Style[]SIDE{}2[]TESTPOINTUNDERCOMPONENT{}TRUE[]MINSIZE{}40mil[]MAXSIZE{}100mil[]PREFEREDSIZE{}60mil[]MINHOLESIZE{}31.4961mil[]MAXHOLESIZE{}39.3701mil[]PREFEREDHOLESIZE{}35.4331mil[]TESTPOINTGRID{}1mil[]ALLOWSIDEBOTTOM{}TRUE[]USEGRID{}TRUE[]GRIDTOLERANCE{}0.01mil[]UNIT{}Metric[]PcbType{}ProtelPcb; Value: Testpoint; DNP: DNP
footprint TP_TH_3MM
pins: 1

## Testpoint_open_3
designator PAD?, comment Testpoint  (value not drawn)
Rule: UNIONINDEX{}0[]RULEKIND{}FabricationTestpoint[]NETSCOPE{}AnyNet[]LAYERKIND{}SameLayer[]NAME{}Schematic Fabrication Testpoint Style[]SIDE{}2[]TESTPOINTUNDERCOMPONENT{}TRUE[]MINSIZE{}40mil[]MAXSIZE{}100mil[]PREFEREDSIZE{}60mil[]MINHOLESIZE{}31.4961mil[]MAXHOLESIZE{}39.3701mil[]PREFEREDHOLESIZE{}35.4331mil[]TESTPOINTGRID{}1mil[]ALLOWSIDEBOTTOM{}TRUE[]USEGRID{}TRUE[]GRIDTOLERANCE{}0.01mil[]UNIT{}Metric[]PcbType{}ProtelPcb; Value: Testpoint; DNP: DNP
footprint TP_TH_3MM
pins: 1

## Testpoint_open_4
designator PAD?, comment Testpoint  (value not drawn)
Rule: UNIONINDEX{}0[]RULEKIND{}FabricationTestpoint[]NETSCOPE{}AnyNet[]LAYERKIND{}SameLayer[]NAME{}Schematic Fabrication Testpoint Style[]SIDE{}2[]TESTPOINTUNDERCOMPONENT{}TRUE[]MINSIZE{}40mil[]MAXSIZE{}100mil[]PREFEREDSIZE{}60mil[]MINHOLESIZE{}31.4961mil[]MAXHOLESIZE{}39.3701mil[]PREFEREDHOLESIZE{}35.4331mil[]TESTPOINTGRID{}1mil[]ALLOWSIDEBOTTOM{}TRUE[]USEGRID{}TRUE[]GRIDTOLERANCE{}0.01mil[]UNIT{}Metric[]PcbType{}ProtelPcb; Value: Testpoint; DNP: DNP
footprint TP_TH_3MM
pins: 1

## TJA1027TK/20,118
designator U?, comment Manufacturer Part Number: TJA1027TK/20,118  (hidden comment: IC TRANSCEIVER 1/1 8HVSON)
1/1 Transceiver LINbus 8-HVSON (3x3); Order Code: DIGI: 568-13773-2-ND
footprint HVSON-8
pins: 1 RXD (out), 2 SLP_N, 3 NC, 4 TXD (in), 5 GND, 6 LIN, 7 VBAT, 8 NC, 9 EP

## TJA1051T/3
designator U?
IC TRANSCEIVER HALF 1/1 8SO; Manufacturer: NXP USA Inc.; Manufacturer Part Number: TJA1051T/3,118; Supplier Part Number: 568-8684-1-ND
footprint SOIC-8 150mil (PN: 23LC1024T-I/SN)
pins: 1 TXD (in), 2 GND (power), 3 VCC (power), 4 RXD (out), 5 VIO (power), 6 CANL (io), 7 CANH (io), 8 S (in)

## TL3300CF260Q
designator S?
Tactile Switch, TL3300 Series, SPST-NO, 8.5mm Top Actuated, 0.05A, 12VDC, Gull | E-Switch TL3300CF260Q; SnapEDA_Link: https://www.snapeda.com/parts/TL3300CF260Q/E-Switch/view-part/?ref=snap; Package: None; Value: *; MF: E-Switch; MP: TL3300CF260Q; Check_prices: https://www.snapeda.com/parts/TL3300CF260Q/E-Switch/view-part/?ref=eda
footprint SW_TL3300CF260Q
pins: 1, 2, 3, 4

## TL3305CF260QG
designator S?, comment SW_TL3305CF260QG
TACT, 50mA, 12VDC SPST-NO, Off-(On), Surface Mount; MF: E-Switch; SnapEDA_Link: https://www.snapeda.com/parts/TL3305CF260QG/E-Switch/view-part/?ref=snap; Package: None; Value: *; MP: TL3305CF260QG; Check_prices: https://www.snapeda.com/parts/TL3305CF260QG/E-Switch/view-part/?ref=eda
footprint SW_TL3305CF260QG
pins: 1, 2, 3, 4

## TLA2528IRTER
designator IC?
12 Bit Analog to Digital Converter 8 Input 1 SAR 16-WQFN (3x3); Manufacturer_Name: Texas Instruments; Datasheet Link: https://www.ti.com/lit/ds/symlink/tla2528.pdf?ts=1596615195592&ref_url=https%253A%252F%252Fwww.ti.com%252Fproduct%252FTLA2528%253Futm_source%253Dgoogle%2526utm_medium%253Dcpc%2526utm_campaign%253Dasc-null-null-gpn_en-cpc-pf-google-eu%2526utm_content%253Dt; Height: 0.8mm; Manufacturer_Part_Number: TLA2528IRTER; Mouser Part Number: 595-TLA2528IRTER; Mouser Price/Stock: https://www.mouser.co.uk/ProductDetail/Texas-Instruments/TLA2528IRTER?qs=%252B6g0mu59x7KfRzJN7APgZw%3D%3D; Arrow Part Number: TLA2528IRTER; Arrow Price/Stock: https://www.arrow.com/en/products/tla2528irter/texas-instruments?region=nac
footprint QFN50P300X300X80-17N-D
pins: 1 AIN2/GPIO2, 2 AIN3/GPIO3, 3 AIN4/GPIO4, 4 AIN5/GPIO5, 5 AIN6/GPIO6, 6 AIN7/GPIO7, 7 AVDD, 8 DECAP, 9 GND, 10 DVDD, 11 ADDR, 12 NC, 13 SCL, 14 SDA, 15 AIN0/GPIO0, 16 AIN1/GPIO1, 17 EP

## TLP291-4GB-TP,E
designator U?, comment TLP291-4(GB-TP,E)
Optoisolator Transistor Output 2500Vrms 4 Channel 16-SO; Manufacturer_Name: Toshiba Electronic Devices & Storage Corp.; Source_Package: TLP291_4; Number_devices_in_Package: 1; Copyright: Copyright (C) 2026 Ultra Librarian. All rights reserved.; Manufacturer_Part_Number: TLP291-4(GB-TP,E); RefDes: Refdes; Type: Type
footprint SO16_TOS
pins: 1, 2, 3, 4, 5, 6, 7, 8, 9, 10, 11, 12, 13, 14, 15, 16

## TLV272
designator U?
footprint SO-8
part A pins: 1 OUT, 2 N, 3 P, 4 GND, 8 VDD
part B pins: 4 GND, 5 P, 6 N, 7 OUT, 8 VDD

## TMB12A03
designator B?
LCSC: C96222
text: BUZZER

## TMUX4051PWR
designator U?
IC SWITCH SP8T X 1 40OHM 16TSSOP; Manufacturer: Texas Instruments; Manufacturer Part Number: TMUX4051PWR; Supplier Part Number: 296-TMUX4051PWRCT-ND
footprint TSSOP-16 (CHECKED BY NAME- 24FEB2020, CREATED BY: JE 400 040A)
pins: 1 S4 (io), 2 S6 (io), 3 D (io), 4 S7 (io), 5 S5 (io), 6 ~{EN} (in), 7 VSS (power), 8 GND (power), 9 A2 (in), 10 A1 (in), 11 A0 (in), 12 S3 (io), 13 S0 (io), 14 S1 (io), 15 S2 (io), 16 VDD (power)

## TMUX4052PWR
designator IC?
2 Circuit IC Switch 4:1 240Ohm 16-TSSOP; Manufacturer_Name: Texas Instruments; Datasheet Link: https://www.ti.com/lit/ds/symlink/tmux4052.pdf?ts=1676371866155&ref_url=https%253A%252F%252Fwww.ti.com%252Fproduct%252FTMUX4052; Height: 1.2mm; Manufacturer_Part_Number: TMUX4052PWR; Mouser Part Number: 595-TMUX4052PWR; Mouser Price/Stock: https://www.mouser.co.uk/ProductDetail/Texas-Instruments/TMUX4052PWR?qs=amGC7iS6iy8OsL8GnYryxg%3D%3D; Arrow Part Number: TMUX4052PWR; Arrow Price/Stock: https://www.arrow.com/en/products/tmux4052pwr/texas-instruments?region=nac
footprint SOP65P640X120-16N
pins: 1 S0B, 2 S2B, 3 DB, 4 S3B, 5 S1B, 6 ~{EN}, 7 VSS, 8 GND, 9 A1, 10 A0, 11 S3A, 12 S0A, 13 DA, 14 S1A, 15 S2A, 16 VDD

## TNPW0402470RBYEP
designator R?, comment 470 Ohms
RES 470 OHM 0.1% 1/16W 0402; Part Number: TNPW0402470RBYEP; Manufacturer: Vishay Dale; Power (Watts): 0.1W, 1/10W; Temperature Coefficient: ±10ppm/°C; Value: 470 Ohms; ComponentLink1Description: Datasheet; ComponentLink1URL: http://www.vishay.com/docs/28758/tnpw_e3.pdf; ComponentLink2Description: DigiKey Link; ComponentLink2URL: http://digikey.com/product-detail/en/vishay-dale/TNPW0402470RBYEP/541-9810-1-ND/9562435; Composition: Thin Film; Device Package: 0402 (1005 Metric); Features: Anti-Sulfur, Automotive AEC-Q200, Moisture Resistant; Height - Seated (Max): 0.016" (0.40mm); LastUpdated: 9.02.2024 20:30:21; Lifecycle Status: Active; Minimum Order: 1; Number of Terminations: 2; Operating Temperature: -55°C ~ 155°C; Package / Case: 0402 (1005 Metric); Packaging: TapeAndReel; PartId: 3068; Part Status: Active; Price: 0.27; Ratings: AEC-Q200; Resistance: 470 Ohms; Series: TNPW e3; Size / Dimension: 0.039" L x 0.020" W (1.00mm x 0.50mm); Supplier 1: DigiKey; Supplier Part Number 1: 541-9810-1-ND; Supplier Device Package: 0402; Tolerance: ±0.1%
footprint RES 0402_1005
pins: 1, 2

## TP
designator T?, comment SMD  (value not drawn)
DESIG: testing PAD; FAB: NA; VAL: NOT POPULATED; PCB Footprint: test0_8-smd; REF: NA
footprint TEST_POINT_SMD
pins: 1 TP

## TP_1
designator TP?, comment +5V0
footprint TEST_POINT
footprint TEST_POINT_TH
pins: 1 TP

## TP_1_1
designator TP?, comment +5V0
footprint TEST_POINT
footprint TEST_POINT_TH
pins: 1 TP

## TP_1_1_1
designator TP?, comment 32KHZ
footprint TEST_POINT
footprint TEST_POINT_TH
pins: 1 TP

## TP_1_1_2
designator TP?, comment 32KHZ
footprint TEST_POINT
footprint TEST_POINT_TH
pins: 1 TP

## TP_1_1_3
designator TP?, comment 32KHZ
footprint TEST_POINT
footprint TEST_POINT_TH
pins: 1 TP

## TP_1_1_4
designator TP?, comment 32KHZ
footprint TEST_POINT
footprint TEST_POINT_TH
pins: 1 TP

## TP_1_2
designator TP?
footprint TEST_POINT
footprint TEST_POINT_TH
pins: 1 TP

## TP_1_3
designator TP?
footprint TEST_POINT
footprint TEST_POINT_TH
pins: 1 TP

## TP_1_4
designator TP?
footprint TEST_POINT
footprint TEST_POINT_TH
pins: 1 TP

## TP_1_5
designator TP?
footprint TEST_POINT
footprint TEST_POINT_TH
pins: 1 TP

## TP_1_6
designator TP?, comment Test Point  (value not drawn)  (no BOM)
footprint TEST_POINT
pins: 1 TP

## TP_2
designator TP?, comment +1V5_DRAM
footprint TEST_POINT
footprint TEST_POINT_TH
pins: 1 TP

## TP_2_1
designator TP?, comment +1V5_DRAM
footprint TEST_POINT
footprint TEST_POINT_TH
pins: 1 TP

## TP_3
designator TP?, comment +1V8_LVDS
footprint TEST_POINT
footprint TEST_POINT_TH
pins: 1 TP

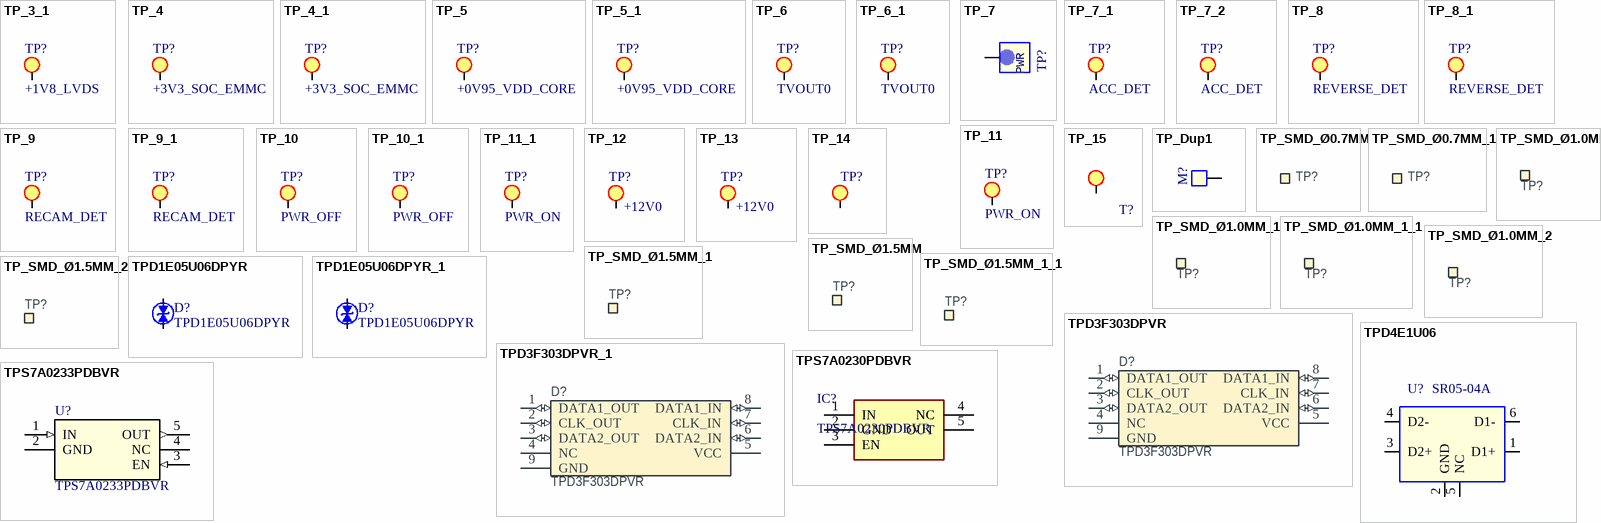
[diagram p58: symbols TP_3_1 to TPS7A0233PDBVR]

## TP_3_1
designator TP?, comment +1V8_LVDS
footprint TEST_POINT
footprint TEST_POINT_TH
pins: 1 TP

## TP_4
designator TP?, comment +3V3_SOC_EMMC
footprint TEST_POINT
footprint TEST_POINT_TH
pins: 1 TP

## TP_4_1
designator TP?, comment +3V3_SOC_EMMC
footprint TEST_POINT
footprint TEST_POINT_TH
pins: 1 TP

## TP_5
designator TP?, comment +0V95_VDD_CORE
footprint TEST_POINT
footprint TEST_POINT_TH
pins: 1 TP

## TP_5_1
designator TP?, comment +0V95_VDD_CORE
footprint TEST_POINT
footprint TEST_POINT_TH
pins: 1 TP

## TP_6
designator TP?, comment TVOUT0
footprint TEST_POINT
footprint TEST_POINT_TH
pins: 1 TP

## TP_6_1
designator TP?, comment TVOUT0
footprint TEST_POINT
footprint TEST_POINT_TH
pins: 1 TP

## TP_7
designator TP?, comment SMD  (value not drawn)
VAL: NOT POPULATED; REF: NA; DESIG: testing PAD; PCB Footprint: HOLE-TP0_9S16; FAB: NA
footprint HOLE-TP0_9S16
pins: 1 TP
text: PWR

## TP_7_1
designator TP?, comment ACC_DET
footprint TEST_POINT
footprint TEST_POINT_TH
pins: 1 TP

## TP_7_2
designator TP?, comment ACC_DET
footprint TEST_POINT
footprint TEST_POINT_TH
pins: 1 TP

## TP_8
designator TP?, comment REVERSE_DET
footprint TEST_POINT
footprint TEST_POINT_TH
pins: 1 TP

## TP_8_1
designator TP?, comment REVERSE_DET
footprint TEST_POINT
footprint TEST_POINT_TH
pins: 1 TP

## TP_9
designator TP?, comment RECAM_DET
footprint TEST_POINT
footprint TEST_POINT_TH
pins: 1 TP

## TP_9_1
designator TP?, comment RECAM_DET
footprint TEST_POINT
footprint TEST_POINT_TH
pins: 1 TP

## TP_10
designator TP?, comment PWR_OFF
footprint TEST_POINT
footprint TEST_POINT_TH
pins: 1 TP

## TP_10_1
designator TP?, comment PWR_OFF
footprint TEST_POINT
footprint TEST_POINT_TH
pins: 1 TP

## TP_11
designator TP?, comment PWR_ON
footprint TEST_POINT
footprint TEST_POINT_TH
pins: 1 TP

## TP_11_1
designator TP?, comment PWR_ON
footprint TEST_POINT
footprint TEST_POINT_TH
pins: 1 TP

## TP_12
designator TP?, comment +12V0
footprint TEST_POINT
footprint TEST_POINT_TH
pins: 1 TP

## TP_13
designator TP?, comment +12V0
footprint TEST_POINT
footprint TEST_POINT_TH
pins: 1 TP

## TP_14
designator TP?, comment Test Point  (value not drawn)  (no BOM)
footprint TEST_POINT
footprint TEST_POINT_TH
footprint TEST_POINT_SMD_0.5x3MM
pins: 1 TP

## TP_15
designator T?, comment SMD  (value not drawn)
DESIG: testing PAD; FAB: NA; VAL: NOT POPULATED; PCB Footprint: test0_8-smd; REF: NA
footprint TEST_POINT
pins: 1 TP

## TP_Dup1
designator M?, comment Mark Piont  (value not drawn)
PCB Footprint: id-board; VAL: NOT POPULATED; REF: NA; DESIG: testing PAD; FAB: NA
footprint TP
footprint id-board
pins: 1

## TP_SMD_Ø0.7MM
designator TP?, comment Ø0.7mm,SMD  (value not drawn)  (no BOM)
0.7mm circular SMD testpad; Part Number: TP_SMD_Ø0.7MM; Manufacturer: Nordic Semiconductor; Manufacturer Part Number: N.A.; Part number NEMS: 100500474; Pad Count: 1; Component Status: Active; PartId: 100500474; Component Class: Connectors; ComponentLink1URL: N.A.; ComponentLink1Description: Datasheet; ComponentLink2URL: N.A.; ComponentLink2Description: Supplier link; HelpURL: N.A.; Footprint Doc: TP_SMD_Ø0.7mm; LatestRevisionDate: 2021-03-05; Published: 2017-12-14; Value: Ø0.7mm,SMD; Note: N.A.; Supplier 1: N.A.; Supplier Part Number 1: N.A.; Supplier 2: N.A.; Supplier Part Number 2: N.A.; Artikkelnr Noca: N.A.; Part number IPS: N.A.; Author: rsk; Part number Norautron: N.A.
footprint TP_SMD_D0.7mm
pins: 1

## TP_SMD_Ø0.7MM_1
designator TP?, comment Ø0.7mm,SMD  (value not drawn)  (no BOM)
0.7mm circular SMD testpad; Part Number: TP_SMD_Ø0.7MM; Manufacturer: Nordic Semiconductor; Manufacturer Part Number: N.A.; Part number NEMS: 100500474; Pad Count: 1; Component Status: Active; PartId: 100500474; Component Class: Connectors; ComponentLink1URL: N.A.; ComponentLink1Description: Datasheet; ComponentLink2URL: N.A.; ComponentLink2Description: Supplier link; HelpURL: N.A.; Footprint Doc: TP_SMD_Ø0.7mm; LatestRevisionDate: 2021-03-05; Published: 2017-12-14; Value: Ø0.7mm,SMD; Note: N.A.; Supplier 1: N.A.; Supplier Part Number 1: N.A.; Supplier 2: N.A.; Supplier Part Number 2: N.A.; Artikkelnr Noca: N.A.; Part number IPS: N.A.; Author: rsk; Part number Norautron: N.A.
footprint TP_SMD_D0.7mm
pins: 1

## TP_SMD_Ø1.0MM
designator TP?, comment Ø1.0mm,SMD  (value not drawn)  (no BOM)
1.0mm circular SMD testpad; Part Number: TP_SMD_Ø1.0MM; Manufacturer: Nordic Semiconductor; Manufacturer Part Number: N.A.; Part number NEMS: 100500475; Pad Count: 1; Component Status: Active; PartId: 100500475; Component Class: Connectors; ComponentLink1URL: N.A.; ComponentLink1Description: Datasheet; ComponentLink2URL: N.A.; ComponentLink2Description: Supplier link; HelpURL: N.A.; Footprint Doc: TP_SMD_Ø1.0mm; LatestRevisionDate: 2021-03-05; Published: 2013-06-11; Value: Ø1.0mm,SMD; Note: N.A.; Supplier 1: N.A.; Supplier Part Number 1: N.A.; Supplier 2: N.A.; Supplier Part Number 2: N.A.; Artikkelnr Noca: N.A.; Part number IPS: N.A.; Author: rsk; Part number Norautron: N.A.
footprint TP_SMD_D1.0mm
pins: 1

## TP_SMD_Ø1.0MM_1
designator TP?, comment Ø1.0mm,SMD  (value not drawn)  (no BOM)
1.0mm circular SMD testpad; Part Number: TP_SMD_Ø1.0MM; Manufacturer: Nordic Semiconductor; Manufacturer Part Number: N.A.; Part number NEMS: 100500475; Pad Count: 1; Component Status: Active; System: Connector; PartId: 100500475; Component Class: Connectors; ComponentLink1URL: N.A.; ComponentLink1Description: Datasheet; ComponentLink2URL: N.A.; ComponentLink2Description: Supplier link; HelpURL: N.A.; Footprint Doc: TP_SMD_Ø1.0mm; LatestRevisionDate: 2021-03-05; Published: 2013-06-11; Value: Ø1.0mm,SMD; Note: N.A.; Supplier 1: N.A.; Supplier Part Number 1: N.A.; Supplier 2: N.A.; Supplier Part Number 2: N.A.; Artikkelnr Noca: N.A.; Part number IPS: N.A.; Author: rsk; Part number Norautron: N.A.
footprint TP_SMD_D1.0mm
pins: 1

## TP_SMD_Ø1.0MM_1_1
designator TP?, comment Ø1.0mm,SMD  (value not drawn)  (no BOM)
1.0mm circular SMD testpad; Part Number: TP_SMD_Ø1.0MM; Manufacturer: Nordic Semiconductor; Manufacturer Part Number: N.A.; Part number NEMS: 100500475; Pad Count: 1; Component Status: Active; System: Connector; PartId: 100500475; Component Class: Connectors; ComponentLink1URL: N.A.; ComponentLink1Description: Datasheet; ComponentLink2URL: N.A.; ComponentLink2Description: Supplier link; HelpURL: N.A.; Footprint Doc: TP_SMD_Ø1.0mm; LatestRevisionDate: 2021-03-05; Published: 2013-06-11; Value: Ø1.0mm,SMD; Note: N.A.; Supplier 1: N.A.; Supplier Part Number 1: N.A.; Supplier 2: N.A.; Supplier Part Number 2: N.A.; Artikkelnr Noca: N.A.; Part number IPS: N.A.; Author: rsk; Part number Norautron: N.A.
footprint TP_SMD_D1.0mm
pins: 1

## TP_SMD_Ø1.0MM_2
designator TP?, comment Ø1.0mm,SMD  (value not drawn)  (no BOM)
1.0mm circular SMD testpad; Part Number: TP_SMD_Ø1.0MM; Manufacturer: Nordic Semiconductor; Manufacturer Part Number: N.A.; Part number NEMS: 100500475; Pad Count: 1; Component Status: Active; PartId: 100500475; Component Class: Connectors; ComponentLink1URL: N.A.; ComponentLink1Description: Datasheet; ComponentLink2URL: N.A.; ComponentLink2Description: Supplier link; HelpURL: N.A.; Footprint Doc: TP_SMD_Ø1.0mm; LatestRevisionDate: 2021-03-05; Published: 2013-06-11; Value: Ø1.0mm,SMD; Note: N.A.; Supplier 1: N.A.; Supplier Part Number 1: N.A.; Supplier 2: N.A.; Supplier Part Number 2: N.A.; Artikkelnr Noca: N.A.; Part number IPS: N.A.; Author: rsk; Part number Norautron: N.A.
footprint TP_SMD_D1.0mm
pins: 1

## TP_SMD_Ø1.5MM
designator TP?, comment Ø1.5mm,SMD  (value not drawn)  (no BOM)
1.5mm circular SMD testpad; Part Number: TP_SMD_Ø1.5MM; Manufacturer: Nordic Semiconductor; Manufacturer Part Number: N.A.; Part number NEMS: 100500477; Pad Count: 1; Component Status: Active; Footprint Doc: TP_SMD_Ø1.5mm; LatestRevisionDate: 2021-03-05; Published: 2016-06-02; Value: Ø1.5mm,SMD; Note: N.A.; Artikkelnr Noca: N.A.; Part number IPS: N.A.; ComponentLink1URL: N.A.; ComponentLink1Description: Datasheet; ComponentLink2URL: N.A.; ComponentLink2Description: Supplier link; HelpURL: N.A.; Supplier 1: N.A.; Supplier Part Number 1: N.A.; Supplier 2: N.A.; Supplier Part Number 2: N.A.; PartId: 100500477; Component Class: Connectors; Author: rsk; Part number Norautron: N.A.
footprint TP_SMD_D1.5mm
pins: 1

## TP_SMD_Ø1.5MM_1
designator TP?, comment Ø1.5mm,SMD  (value not drawn)  (no BOM)
1.5mm circular SMD testpad; Part Number: TP_SMD_Ø1.5MM; Manufacturer: Nordic Semiconductor; Manufacturer Part Number: N.A.; Part number NEMS: 100500477; Pad Count: 1; Component Status: Active; System: Connector; Footprint Doc: TP_SMD_Ø1.5mm; LatestRevisionDate: 2021-03-05; Published: 2016-06-02; Value: Ø1.5mm,SMD; Note: N.A.; Artikkelnr Noca: N.A.; Part number IPS: N.A.; ComponentLink1URL: N.A.; ComponentLink1Description: Datasheet; ComponentLink2URL: N.A.; ComponentLink2Description: Supplier link; HelpURL: N.A.; Supplier 1: N.A.; Supplier Part Number 1: N.A.; Supplier 2: N.A.; Supplier Part Number 2: N.A.; PartId: 100500477; Component Class: Connectors; Author: rsk; Part number Norautron: N.A.
footprint TP_SMD_D1.5mm
pins: 1

## TP_SMD_Ø1.5MM_1_1
designator TP?, comment Ø1.5mm,SMD  (value not drawn)  (no BOM)
1.5mm circular SMD testpad; Part Number: TP_SMD_Ø1.5MM; Manufacturer: Nordic Semiconductor; Manufacturer Part Number: N.A.; Part number NEMS: 100500477; Pad Count: 1; Component Status: Active; System: Connector; Footprint Doc: TP_SMD_Ø1.5mm; LatestRevisionDate: 2021-03-05; Published: 2016-06-02; Value: Ø1.5mm,SMD; Note: N.A.; Artikkelnr Noca: N.A.; Part number IPS: N.A.; ComponentLink1URL: N.A.; ComponentLink1Description: Datasheet; ComponentLink2URL: N.A.; ComponentLink2Description: Supplier link; HelpURL: N.A.; Supplier 1: N.A.; Supplier Part Number 1: N.A.; Supplier 2: N.A.; Supplier Part Number 2: N.A.; PartId: 100500477; Component Class: Connectors; Author: rsk; Part number Norautron: N.A.
footprint TP_SMD_D1.5mm
pins: 1

## TP_SMD_Ø1.5MM_2
designator TP?, comment Ø1.5mm,SMD  (value not drawn)  (no BOM)
1.5mm circular SMD testpad; Part Number: TP_SMD_Ø1.5MM; Manufacturer: Nordic Semiconductor; Manufacturer Part Number: N.A.; Part number NEMS: 100500477; Pad Count: 1; Component Status: Active; Footprint Doc: TP_SMD_Ø1.5mm; LatestRevisionDate: 2021-03-05; Published: 2016-06-02; Value: Ø1.5mm,SMD; Note: N.A.; Artikkelnr Noca: N.A.; Part number IPS: N.A.; ComponentLink1URL: N.A.; ComponentLink1Description: Datasheet; ComponentLink2URL: N.A.; ComponentLink2Description: Supplier link; HelpURL: N.A.; Supplier 1: N.A.; Supplier Part Number 1: N.A.; Supplier 2: N.A.; Supplier Part Number 2: N.A.; PartId: 100500477; Component Class: Connectors; Author: rsk; Part number Norautron: N.A.
footprint TP_SMD_D1.5mm
pins: 1

## TPD1E05U06DPYR
designator D?, comment Manufacturer Part Number: TPD1E05U06DPYR  (hidden comment: TVS DIODE 5.5VWM 14VC 2X1SON)
14V Clamp 2.5A (8/20µs) Ipp Tvs Diode Surface Mount 2-X1SON (1x.60); Order Code: Digi: 296-39341-2-ND; LCSC Manufacturer Part Number: TPD1E05U06DPYR; LCSC Part Number: C436349
footprint D 0402(1005)
pins: 1 G "gate", 2 S "source"

## TPD1E05U06DPYR_1
designator D?, comment Manufacturer Part Number: TPD1E05U06DPYR  (hidden comment: TVS DIODE 5.5VWM 14VC 2X1SON)
14V Clamp 2.5A (8/20µs) Ipp Tvs Diode Surface Mount 2-X1SON (1x.60); Order Code: Digi: 296-39341-2-ND; LCSC Manufacturer Part Number: TPD1E05U06DPYR; LCSC Part Number: C436349
footprint D 0402(1005)
pins: 1 G "gate", 2 S "source"

## TPD3F303DPVR
designator D?
ESD Protection and EMI Filter for SIM Card Interface; Manufacturer: Texas Instruments; Part number NEMS: 101900729; Note: N.A.; Pad Count: 8; Component Status: Active; Part Number: TPD3F303DPVR; Manufacturer Part Number: TPD3F303DPVR; Footprint Doc: USON-8; LatestRevisionDate: 2022-10-19; Published: 2022-10-19; Value: TPD3F303DPVR; Artikkelnr Noca: N.A.; ComponentLink1URL: https://www.ti.com/lit/ds/symlink/tpd3f303.pdf; ComponentLink1Description: Datasheet; ComponentLink2URL: https://www.digikey.com/en/products/detail/texas-instruments/TPD3F303DPVR/2605055; ComponentLink2Description: Supplier link; HelpURL: https://www.ti.com/product/TPD3F303/part-details/TPD3F303DPVR; Supplier 1: Digi-Key; Supplier Part Number 1: 296-28299-1-ND; Supplier 2: Mouser; Supplier Part Number 2: 595-TPD3F303DPVR; Part number IPS: N.A.; PartId: 101900729; Component Class: Misc_ICs; Author: rubr; Part number Norautron: N.A.
footprint SON50P210X160X65_HS-9N
pins: 1 DATA1_OUT (io), 2 CLK_OUT (io), 3 DATA2_OUT (io), 4 NC, 5 VCC (power), 6 DATA2_IN (io), 7 CLK_IN (io), 8 DATA1_IN (io), 9 GND (power)